# Altium integrated library CONN_IDC_12_PIN2.54.IntLib: 1 symbol
Pins are listed as number, name and electrical type; pins without a type are passive.

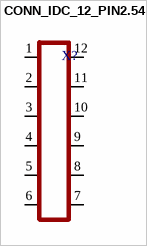
[diagram p0: symbol CONN_IDC_12_PIN2.54]

## CONN_IDC_12_PIN2.54
designator X?
footprint CONN_IDC_12_PIN2.54
pins: 1, 2, 3, 4, 5, 6, 7, 8, 9, 10, 11, 12